# EAGLE library part MEC-3FTL6 (library kvitekp)
Multimec 3FTL6 LED Switch manufectured by MEC Switches
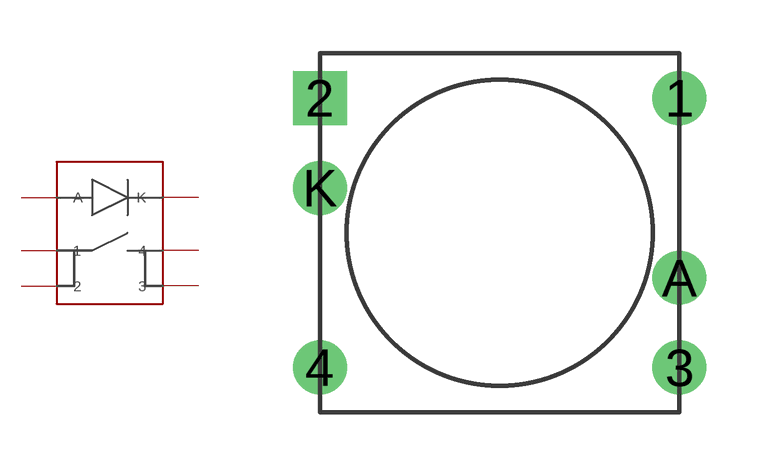
[diagram p1: symbol with the pads of MEC-3FTL6; footprint MEC-3FTL6]

Designator prefix -

## MEC-3FTL6  [MEC-3FTL6]
1  1
2  2
3  3
4  4
A  A
K  K

## Footprint MEC-3FTL6 (pad centres in mm)
drill 1.016: 1 10.16,0; 3 10.16,-7.62; 4 0,-7.62; A 10.16,-5.08; K 0,-2.54
drill 1.016 square: 2 0,0